# Altium integrated library RN732ATTDK1001F50 (1).IntLib: 1 symbol
Pins are listed as number, name and electrical type; pins without a type are passive.

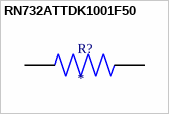
[diagram p0: symbol RN732ATTDK1001F50]

## RN732ATTDK1001F50
designator R?
Thin Film Resistors - SMD 1kOhm,0805,1%,50ppm, 100mW,100V; MP: RN732ATTDK1001F50; Package: None; Price: None; Value: *; Availability: Unavailable
footprint RESC2012X60N
pins: 1, 2